# Altium schematic symbol library AP65111AWU-7.SchLib: 1 symbol
Pins are listed as number, name and electrical type; pins without a type are passive.

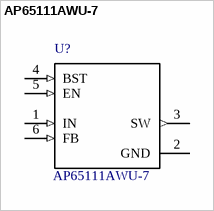
[diagram p0: symbol AP65111AWU-7]

## AP65111AWU-7
designator U?
/ Dcdc Conv Hv Buck Tsot26 t&r 3k /; MF: Diodes Inc.; Digi-Key_Purchase_URL: https://www.digikey.com.au/product-detail/en/diodes-incorporated/AP65111AWU-7/AP65111AWU-7DICT-ND/7652826?utm_source=snapeda&utm_medium=aggregator&utm_campaign=symbol; MP: AP65111AWU-7; Package: TSOT-23-6 Diodes Inc.; SnapEDA_Link: https://www.snapeda.com/parts/AP65111AWU-7/Diodes%20Inc./view-part/?ref=snap; Digi-Key_Part_Number: AP65111AWU-7DICT-ND; Value: *
footprint *SOT95P280X100-6N
pins: 1 IN (in), 2 GND (power), 3 SW (out), 4 BST (in), 5 EN (in), 6 FB (in)